# EAGLE library part TLK110 (library OPLLib)
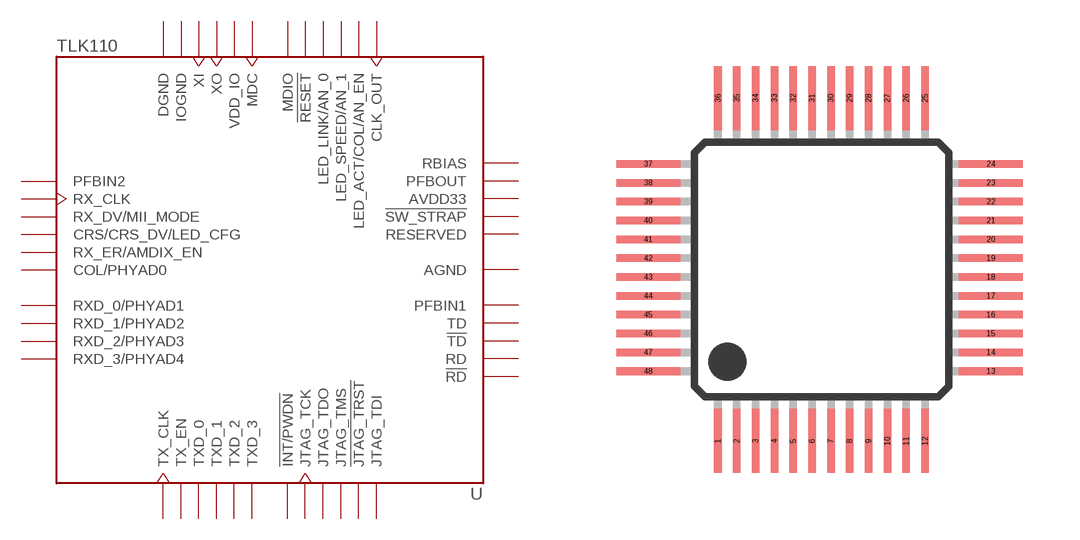
[diagram p1: symbol with the pads of LQFP48; footprint LQFP48]

Designator prefix U

## TLK110 (MPN: TLK110PTR; OC_FARNELL: 2335631)  [LQFP48]
1  TX_CLK  out
2  TX_EN  in
3  TXD_0  in
4  TXD_1  in
5  TXD_2  in
6  TXD_3  in
7  !INT/PWDN
8  JTAG_TCK  in
9  JTAG_TDO  out
10  JTAG_TMS  in
11  !JTAG_TRST  in
12  JTAG_TDI  in
13  !RD
14  RD
15  AGND  pwr
16  !TD
17  TD
18  PFBIN1  in
19  AGND  pwr
20  RESERVED
21  !SW_STRAP  in
22  AVDD33  pwr
23  PFBOUT  out
24  RBIAS  in
25  CLK_OUT  out
26  LED_ACT/COL/AN_EN  out
27  LED_SPEED/AN_1  out
28  LED_LINK/AN_0  out
29  !RESET  in
30  MDIO
31  MDC  in
32  VDD_IO  pwr
33  XO  pas
34  XI  pas
35  IOGND  pwr
36  DGND  pwr
37  PFBIN2  in
38  RX_CLK  out
39  RX_DV/MII_MODE  out
40  CRS/CRS_DV/LED_CFG  out
41  RX_ER/AMDIX_EN  out
42  COL/PHYAD0  out
43  RXD_0/PHYAD1  out
44  RXD_1/PHYAD2  out
45  RXD_2/PHYAD3  out
46  RXD_3/PHYAD4  out
47  IOGND  pwr
48  VDD_IO  pwr

## Footprint LQFP48 (pad centres in mm)
48-pin plastic LQFP (FPT-48P-M26) www.fma.fujitsu.com/pdf/e713717.pdf
smd 0.2 x 1.7: 1 -2.75,-4.6; 2 -2.25,-4.6; 3 -1.75,-4.6; 4 -1.25,-4.6; 5 -0.75,-4.6; 6 -0.25,-4.6; 7 0.25,-4.6; 8 0.75,-4.6; 9 1.25,-4.6; 10 1.75,-4.6; 11 2.25,-4.6; 12 2.75,-4.6; 25 2.75,4.5; 26 2.25,4.5; 27 1.75,4.5; 28 1.25,4.5; 29 0.75,4.5; 30 0.25,4.5; 31 -0.25,4.5; 32 -0.75,4.5; 33 -1.25,4.5; 34 -1.75,4.5; 35 -2.25,4.5; 36 -2.75,4.5
smd 1.7 x 0.2: 13 4.5,-2.75; 14 4.5,-2.25; 15 4.5,-1.75; 16 4.5,-1.25; 17 4.5,-0.75; 18 4.5,-0.25; 19 4.5,0.25; 20 4.5,0.75; 21 4.5,1.25; 22 4.5,1.75; 23 4.5,2.25; 24 4.5,2.75; 37 -4.6,2.75; 38 -4.6,2.25; 39 -4.6,1.75; 40 -4.6,1.25; 41 -4.6,0.75; 42 -4.6,0.25; 43 -4.6,-0.25; 44 -4.6,-0.75; 45 -4.6,-1.25; 46 -4.6,-1.75; 47 -4.6,-2.25; 48 -4.6,-2.75